# EAGLE library part LT3652 (library LT3652)
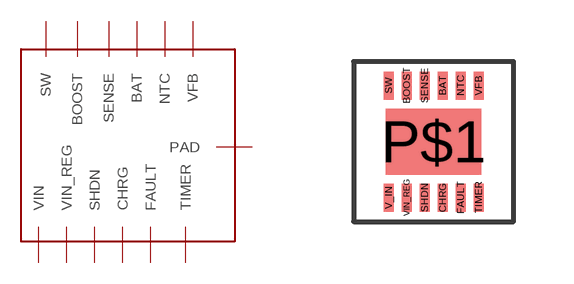
[diagram p0: symbol with the pads of DD-12-LEAD-3MMX3MM; footprint DD-12-LEAD-3MMX3MM]

Designator prefix -

## LT3652  [DD-12-LEAD-3MMX3MM]
BAT  BAT
BOOST  BOOST
CHRG  CHRG
FAULT  FAULT
NTC  NTC
P$1  PAD
SENSE  SENSE
SHDN  SHDN
SW  SW
TIMER  TIMER
V_IN  VIN
VFB  VFB
VIN_REG  VIN_REG

## Footprint DD-12-LEAD-3MMX3MM (pad centres in mm)
smd 0.25 x 0.7: BAT 0.225,1.4; BOOST -0.675,1.4; CHRG 0.225,-1.4; FAULT 0.675,-1.4; NTC 0.675,1.4; SENSE -0.225,1.4; SHDN -0.225,-1.4; SW -1.125,1.4; TIMER 1.125,-1.4; V_IN -1.125,-1.4; VFB 1.125,1.4; VIN_REG -0.675,-1.4
smd 2.38 x 1.65: P$1 0,0